# Altium footprint library Magnetics.PcbLib: 10 footprints
Each footprint in its own frame and in the unit in brackets; x right, y up, seen from the top. Pads: shape width x height; smd on the part's side, far side on the other; paste and mask are expansions set on the pad; w line width, h text height; cw(c..) or ccw(c..) is an arc to the next point about the centre after c.
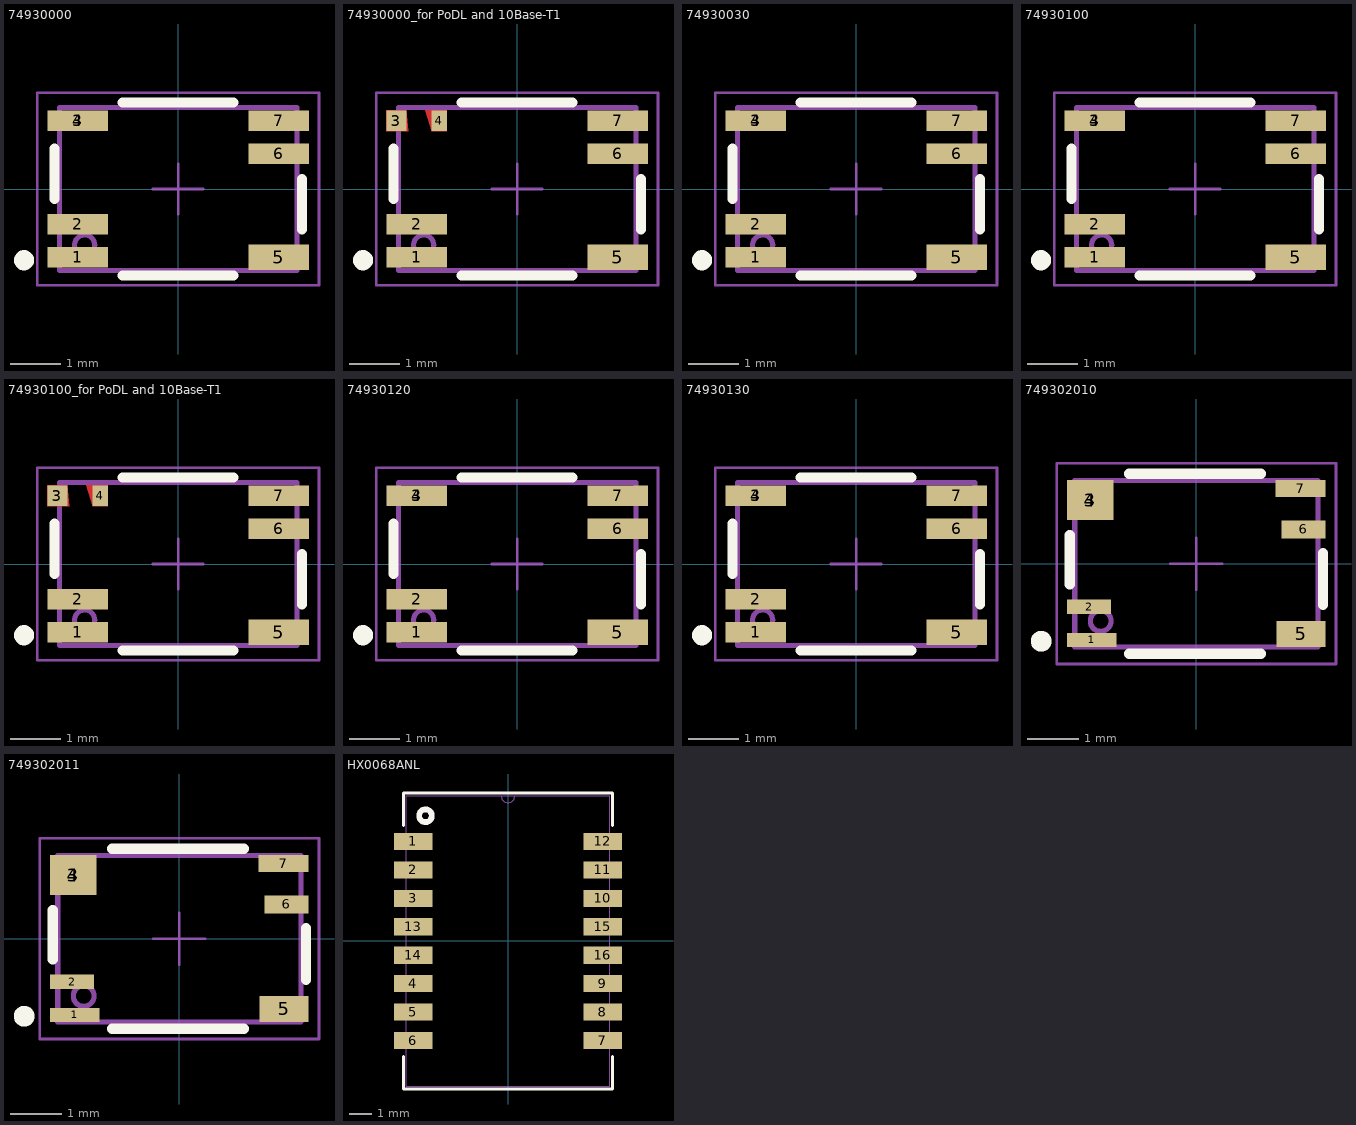
[diagram p0: the footprints below, top view; thin cyan lines are the x and y axes]

## 74930000 [mm] "Super Tiny Signal Transformer, body 4.7x3.22mm"
height 2.9
pads (7):
  rect 1.2x0.41 smd: 1(-1.99,-1.35) 2(-1.99,-0.7) 3(-1.99,1.35) 4(-1.99,1.35) 6(1.99,0.7) 7(1.99,1.35)
  rect 1.2x0.5 smd: 5(1.99,-1.35)
Top Overlay:
  circle w0.2: c-3.05,-1.41 r0.1
  lines w0.2: -2.45,-0.2 -2.45,0.8 ; -1.1,-1.71 1.1,-1.71 ; -1.1,1.71 1.1,1.71 ; 2.45,-0.8 2.45,0.2
Mechanical 11:
  circle w0.1: c-1.85,-1.11 r0.2
  lines w0.1: -2.35,-1.61 2.35,-1.61 2.35,1.61 -2.35,1.61 -2.35,-1.61
Mechanical 13:
  circle w0.1: c-1.85,-1.11 r0.2
  lines w0.1: -2.35,-1.61 -2.35,1.61 2.35,1.61 2.35,-1.61 -2.35,-1.61
Mechanical 15:
  lines w0.05: -0.5,0 0.5,0 ; 0,-0.5 0,0.5 ; -2.79,-1.91 2.79,-1.91 2.79,1.91 -2.79,1.91 -2.79,-1.91
3D body "74930000.stp": height 2.83, standoff 0, extent -2.35,-1.61 2.35,1.61

## 74930000_for PoDL and 10Base-T1 [mm] "Super Tiny Signal Transformer, body 4.7x3.22mm"
height 2.9
pads (7):
  rect 1.2x0.41 smd: 1(-1.99,-1.35) 2(-1.99,-0.7) 6(1.99,0.7) 7(1.99,1.35)
  rect 0.4x0.41 smd paste+0 mask+0: 3(-2.39,1.35)
  rect 0.3x0.41 smd paste+0 mask+0: 4(-1.54,1.35)
  rect 1.2x0.5 smd: 5(1.99,-1.35)
Top Layer:
  region: -1.69,1.145 -1.82,1.555 -1.39,1.555 -1.39,1.145
  region: -2.59,1.145 -2.59,1.555 -2.19,1.555 -2.16,1.145
Top Overlay:
  circle w0.2: c-3.05,-1.41 r0.1
  lines w0.2: -2.45,-0.2 -2.45,0.8 ; -1.1,-1.71 1.1,-1.71 ; -1.1,1.71 1.1,1.71 ; 2.45,-0.8 2.45,0.2
Mechanical 11:
  circle w0.1: c-1.85,-1.11 r0.2
  lines w0.1: -2.35,-1.61 2.35,-1.61 2.35,1.61 -2.35,1.61 -2.35,-1.61
  text ".Designator" at -2,-0.6 h1.2
Mechanical 13:
  circle w0.1: c-1.85,-1.11 r0.2
  lines w0.1: -2.35,-1.61 -2.35,1.61 2.35,1.61 2.35,-1.61 -2.35,-1.61
Mechanical 15:
  lines w0.05: -0.5,0 0.5,0 ; 0,-0.5 0,0.5 ; -2.79,-1.91 2.79,-1.91 2.79,1.91 -2.79,1.91 -2.79,-1.91
3D body "74930000.stp": height 2.83, standoff 0, extent -2.35,-1.61 2.35,1.61

## 74930030 [mm] "Super Tiny Signal Transformer, body 4.7x3.22mm"
height 2.9
pads (7):
  rect 1.2x0.41 smd: 1(-1.99,-1.35) 2(-1.99,-0.7) 3(-1.99,1.35) 4(-1.99,1.35) 6(1.99,0.7) 7(1.99,1.35)
  rect 1.2x0.5 smd: 5(1.99,-1.35)
Top Overlay:
  circle w0.2: c-3.05,-1.41 r0.1
  lines w0.2: -2.45,-0.2 -2.45,0.8 ; -1.1,-1.71 1.1,-1.71 ; -1.1,1.71 1.1,1.71 ; 2.45,-0.8 2.45,0.2
Mechanical 11:
  circle w0.1: c-1.85,-1.11 r0.2
  lines w0.1: -2.35,-1.61 -2.35,1.61 2.35,1.61 2.35,-1.61 -2.35,-1.61
  text ".Designator" at -2,-0.6 h1.2
Mechanical 13:
  circle w0.1: c-1.85,-1.11 r0.2
  lines w0.1: -2.35,-1.61 2.35,-1.61 2.35,1.61 -2.35,1.61 -2.35,-1.61
Mechanical 15:
  lines w0.05: -0.5,0 0.5,0 ; 0,-0.5 0,0.5 ; -2.79,-1.91 -2.79,1.91 2.79,1.91 2.79,-1.91 -2.79,-1.91
3D body "74930000.stp": height 2.83, standoff 0, extent -2.35,-1.61 2.35,1.61

## 74930100 [mm] "Super Tiny Signal Transformer, body 4.7x3.22mm"
height 2.9
pads (7):
  rect 1.2x0.41 smd: 1(-1.99,-1.35) 2(-1.99,-0.7) 3(-1.99,1.35) 4(-1.99,1.35) 6(1.99,0.7) 7(1.99,1.35)
  rect 1.2x0.5 smd: 5(1.99,-1.35)
Top Overlay:
  circle w0.2: c-3.05,-1.41 r0.1
  lines w0.2: -2.45,-0.2 -2.45,0.8 ; -1.1,-1.71 1.1,-1.71 ; -1.1,1.71 1.1,1.71 ; 2.45,-0.8 2.45,0.2
Mechanical 11:
  circle w0.1: c-1.85,-1.11 r0.2
  lines w0.1: -2.35,-1.61 -2.35,1.61 2.35,1.61 2.35,-1.61 -2.35,-1.61
  text ".Designator" at -2,-0.6 h1.2
Mechanical 13:
  circle w0.1: c-1.85,-1.11 r0.2
  lines w0.1: -2.35,-1.61 2.35,-1.61 2.35,1.61 -2.35,1.61 -2.35,-1.61
Mechanical 15:
  lines w0.05: -0.5,0 0.5,0 ; 0,-0.5 0,0.5 ; -2.79,-1.91 -2.79,1.91 2.79,1.91 2.79,-1.91 -2.79,-1.91
3D body "74930000.stp": height 2.83, standoff 0, extent -2.35,-1.61 2.35,1.61

## 74930100_for PoDL and 10Base-T1 [mm] "Super Tiny Signal Transformer, body 4.7x3.22mm"
height 2.9
pads (7):
  rect 1.2x0.41 smd: 1(-1.99,-1.35) 2(-1.99,-0.7) 6(1.99,0.7) 7(1.99,1.35)
  rect 0.4x0.41 smd paste+0 mask+0: 3(-2.39,1.35)
  rect 0.3x0.41 smd paste+0 mask+0: 4(-1.54,1.35)
  rect 1.2x0.5 smd: 5(1.99,-1.35)
Top Layer:
  region: -1.69,1.145 -1.82,1.555 -1.39,1.555 -1.39,1.145
  region: -2.59,1.145 -2.59,1.555 -2.19,1.555 -2.16,1.145
Top Overlay:
  circle w0.2: c-3.05,-1.41 r0.1
  lines w0.2: -2.45,-0.2 -2.45,0.8 ; -1.1,-1.71 1.1,-1.71 ; -1.1,1.71 1.1,1.71 ; 2.45,-0.8 2.45,0.2
Mechanical 11:
  circle w0.1: c-1.85,-1.11 r0.2
  lines w0.1: -2.35,-1.61 2.35,-1.61 2.35,1.61 -2.35,1.61 -2.35,-1.61
  text ".Designator" at -2,-0.6 h1.2
Mechanical 13:
  circle w0.1: c-1.85,-1.11 r0.2
  lines w0.1: -2.35,-1.61 -2.35,1.61 2.35,1.61 2.35,-1.61 -2.35,-1.61
Mechanical 15:
  lines w0.05: -0.5,0 0.5,0 ; 0,-0.5 0,0.5 ; -2.79,-1.91 2.79,-1.91 2.79,1.91 -2.79,1.91 -2.79,-1.91
3D body "74930000.stp": height 2.83, standoff 0, extent -2.35,-1.61 2.35,1.61

## 74930120 [mm] "Super Tiny Signal Transformer, body 4.7x3.22mm"
height 2.9
pads (7):
  rect 1.2x0.41 smd: 1(-1.99,-1.35) 2(-1.99,-0.7) 3(-1.99,1.35) 4(-1.99,1.35) 6(1.99,0.7) 7(1.99,1.35)
  rect 1.2x0.5 smd: 5(1.99,-1.35)
Top Overlay:
  circle w0.2: c-3.05,-1.41 r0.1
  lines w0.2: -2.45,-0.2 -2.45,0.8 ; -1.1,-1.71 1.1,-1.71 ; -1.1,1.71 1.1,1.71 ; 2.45,-0.8 2.45,0.2
Mechanical 11:
  circle w0.1: c-1.85,-1.11 r0.2
  lines w0.1: -2.35,-1.61 2.35,-1.61 2.35,1.61 -2.35,1.61 -2.35,-1.61
  text ".Designator" at -2,-0.6 h1.2
Mechanical 13:
  circle w0.1: c-1.85,-1.11 r0.2
  lines w0.1: -2.35,-1.61 -2.35,1.61 2.35,1.61 2.35,-1.61 -2.35,-1.61
Mechanical 15:
  lines w0.05: -0.5,0 0.5,0 ; 0,-0.5 0,0.5 ; -2.79,-1.91 2.79,-1.91 2.79,1.91 -2.79,1.91 -2.79,-1.91
3D body "74930000.stp": height 2.83, standoff 0, extent -2.35,-1.61 2.35,1.61

## 74930130 [mm] "Super Tiny Signal Transformer, body 4.7x3.22mm"
height 2.9
pads (7):
  rect 1.2x0.41 smd: 1(-1.99,-1.35) 2(-1.99,-0.7) 3(-1.99,1.35) 4(-1.99,1.35) 6(1.99,0.7) 7(1.99,1.35)
  rect 1.2x0.5 smd: 5(1.99,-1.35)
Top Overlay:
  circle w0.2: c-3.05,-1.41 r0.1
  lines w0.2: -2.45,-0.2 -2.45,0.8 ; -1.1,-1.71 1.1,-1.71 ; -1.1,1.71 1.1,1.71 ; 2.45,-0.8 2.45,0.2
Mechanical 11:
  circle w0.1: c-1.85,-1.11 r0.2
  lines w0.1: -2.35,-1.61 -2.35,1.61 2.35,1.61 2.35,-1.61 -2.35,-1.61
  text ".Designator" at -2,-0.6 h1.2
Mechanical 13:
  circle w0.1: c-1.85,-1.11 r0.2
  lines w0.1: -2.35,-1.61 2.35,-1.61 2.35,1.61 -2.35,1.61 -2.35,-1.61
Mechanical 15:
  lines w0.05: -0.5,0 0.5,0 ; 0,-0.5 0,0.5 ; -2.79,-1.91 -2.79,1.91 2.79,1.91 2.79,-1.91 -2.79,-1.91
3D body "74930000.stp": height 2.83, standoff 0, extent -2.35,-1.61 2.35,1.61

## 749302010 [mm] "Super Tiny Signal Transformer, body 4.7x3.22mm"
height 2.9
pads (7):
  rect 0.96x0.27 smd: 1(-2.02,-1.475)
  rect 0.85x0.28 smd: 2(-2.075,-0.835)
  rect 0.9x0.77 smd: 3(-2.05,1.23) 4(-2.05,1.23)
  rect 0.95x0.5 smd: 5(2.025,-1.36)
  rect 0.85x0.34 smd: 6(2.075,0.66)
  rect 0.97x0.33 smd: 7(2.015,1.45)
Top Overlay:
  circle w0.2: c-3,-1.5 r0.1
  lines w0.2: -2.45,-0.4 -2.45,0.55 ; -1.3,-1.741 1.25,-1.741 ; -1.3,1.741 1.25,1.741 ; 2.45,-0.8 2.45,0.2
Mechanical 11:
  circle w0.1: c-1.85,-1.11 r0.2
  lines w0.1: -2.35,-1.61 -2.35,1.61 2.35,1.61 2.35,-1.61 -2.35,-1.61
  text ".Designator" at -2,-0.6 h1.2
Mechanical 13:
  circle w0.1: c-1.85,-1.11 r0.2
  lines w0.1: -2.35,-1.61 2.35,-1.61 2.35,1.61 -2.35,1.61 -2.35,-1.61
Mechanical 15:
  lines w0.05: -0.5,0 0.5,0 ; 0,-0.5 0,0.5 ; -2.7,-1.941 -2.7,1.941 2.7,1.941 2.7,-1.941 -2.7,-1.941
3D body "749302010.stp": height 2.9, standoff 0, extent -2.35,-1.61 2.35,1.61

## 749302011 [mm] "Super Tiny Signal Transformer, body 4.7x3.22mm"
height 2.9
pads (7):
  rect 0.96x0.27 smd: 1(-2.02,-1.475)
  rect 0.85x0.28 smd: 2(-2.075,-0.835)
  rect 0.9x0.77 smd: 3(-2.05,1.23) 4(-2.05,1.23)
  rect 0.95x0.5 smd: 5(2.025,-1.36)
  rect 0.85x0.34 smd: 6(2.075,0.66)
  rect 0.97x0.33 smd: 7(2.015,1.45)
Top Overlay:
  circle w0.2: c-3,-1.5 r0.1
  lines w0.2: -2.45,-0.4 -2.45,0.55 ; -1.3,-1.741 1.25,-1.741 ; -1.3,1.741 1.25,1.741 ; 2.45,-0.8 2.45,0.2
Mechanical 11:
  circle w0.1: c-1.85,-1.11 r0.2
  lines w0.1: -2.35,-1.61 -2.35,1.61 2.35,1.61 2.35,-1.61 -2.35,-1.61
  text ".Designator" at -2,-0.6 h1.2
Mechanical 13:
  circle w0.1: c-1.85,-1.11 r0.2
  lines w0.1: -2.35,-1.61 2.35,-1.61 2.35,1.61 -2.35,1.61 -2.35,-1.61
Mechanical 15:
  lines w0.05: -0.5,0 0.5,0 ; 0,-0.5 0,0.5 ; -2.7,-1.941 -2.7,1.941 2.7,1.941 2.7,-1.941 -2.7,-1.941
3D body "749302010.stp": height 2.9, standoff 0, extent -2.35,-1.61 2.35,1.61

## HX0068ANL [mil]
pads (16):
  rect 68x30 smd paste+0 mask+0: 1(-166.25,175) 2(-166.25,125) 3(-166.25,75) 4(-166.25,-75) 5(-166.25,-125) 6(-166.25,-175) 7(166.25,-175) 8(166.25,-125) 9(166.25,-75) 10(166.25,75) 11(166.25,125) 12(166.25,175) 13(-166.25,25) 14(-166.25,-25) 15(166.25,25) 16(166.25,-25)
Top Overlay:
  circle w10: c-145,220 r11.18
  lines w6: -183.5,-203.1 -183.5,-260 183.5,-260 183.5,-203.1 ; -183.5,203.1 -183.5,260 183.5,260 183.5,203.1
Mechanical 13:
  lines w0: -12,255 ccw(c0,255) 12,255
  lines w1: -178.5,-255 178.5,-255 178.5,255 -178.5,255 -178.5,-255
3D body "HX0068ANL_3D.STEP": height 70, standoff -10, extent -185,-250 183.39,250